# Altium schematic symbol library cabinet.SCHLIB: 36 symbols
Pins are listed as number, name and electrical type; pins without a type are passive.

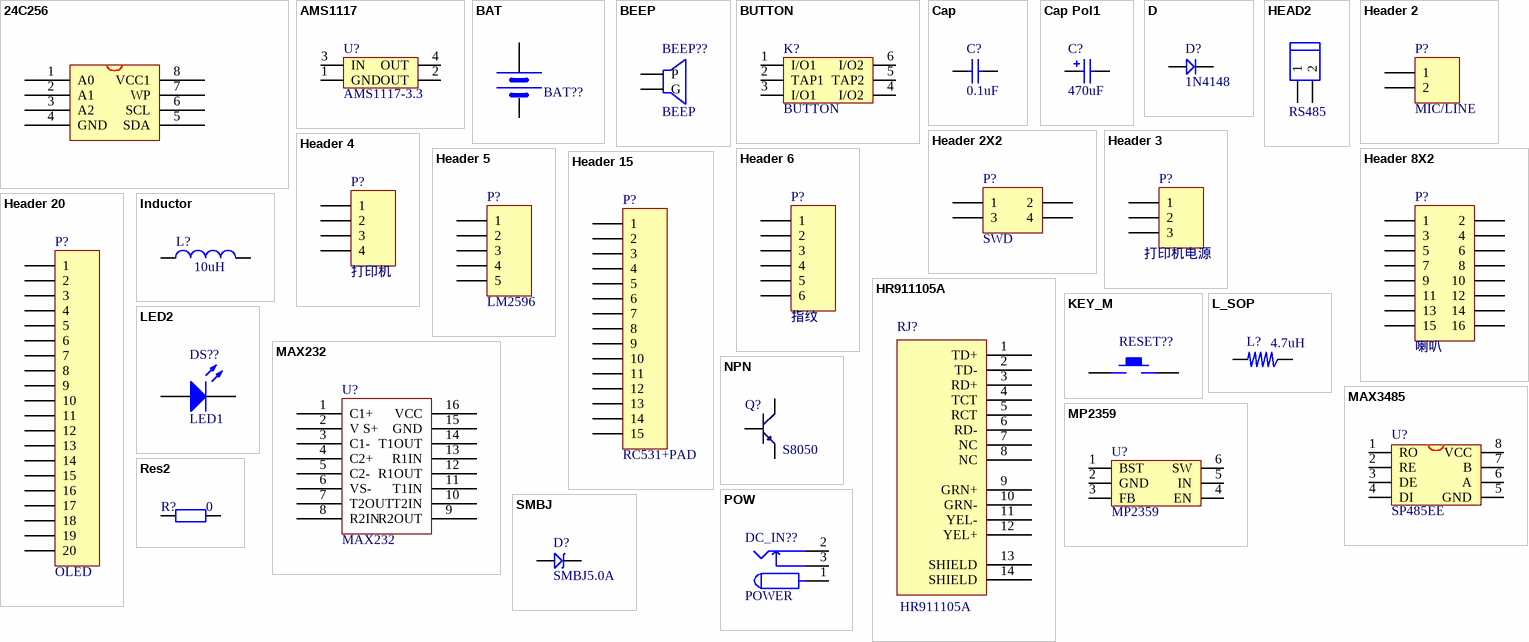
[diagram p0: symbols 24C256 to SMBJ]

## 24C256
designator U?, comment 24C02
footprint SOP-8 (SOP)
pins: 1 A0, 2 A1, 3 A2, 4 GND, 5 SDA, 6 SCL, 7 WP, 8 VCC1

## AMS1117
designator U?, comment AMS1117-3.3
footprint AMS1117
pins: 1 GND, 2 OUT, 3 IN, 4 OUT

## BAT
designator BAT??, comment BATT  (value not drawn)
footprint BATM (BAT)
pins: 1 VCC, 2 GND

## BEEP
designator BEEP??
footprint BUZZ0.25
footprint BELL-5 (PIN:5MM,SIZE:10MM)
pins: 1 P, 2 G

## BUTTON
designator K?
footprint BTN8.5*8.5 (8.5MM*8.5MM)
footprint BTN7*7 (7mm*7mm)
pins: 1 I/O1, 2 TAP1, 3 I/O1, 4 I/O2, 5 TAP2, 6 I/O2

## Cap
designator C?  value 0.1uF  (hidden comment: Cap)
Capacitor; Published: 8-Jun-2000; LatestRevisionDate: 17-Jul-2002; LatestRevisionNote: Re-released for DXP Platform.; PackageReference: RAD-0.3; Publisher: Altium Limited
footprint 0603P
footprint CAPR2.54-5.1x3.2 (Capacitor, Ceramic, Thru-Hole, Dipped Radial; Body 5.1 x 3.2 mm (WxT) Pin Spacing 2.54 mm (typ))
footprint CAPR5.08-7.8x3.2 (Capacitor, Ceramic, Thru-Hole, Dipped Radial; Body 7.8 x 3.2 mm (WxT) Pin Spacing 5.08 mm (typ))
simulation model CAP (Capacitor)
signal-integrity model Cap
pins: 1, 2

## Cap Pol1
designator C?  value 470uF  (hidden comment: Cap Pol1)
Polarized Capacitor (Radial); Published: 8-Jun-2000; LatestRevisionDate: 17-Jul-2002; LatestRevisionNote: Re-released for DXP Platform.; PackageReference: RB7.6-15; Publisher: Altium Limited
footprint 电解电容220UF25V
footprint CAPPR1.27-1.7x2.8 (Capacitor, Radial, Tantalum; Body 1.7 x 2.8 mm (Dia.xH max); Pin Spacing 1.27 mm (typ))
footprint CAPPR1.5-4x5 (Capacitor, Electrolytic, Radial; Body 4 x 5 mm (Dia.xH typ); Pin Spacing 1.5 mm (typ))
footprint CAPPR2-5x6.8 (Capacitor, Electrolytic, Radial; Body 5 x 6.8 mm (Dia.xH typ); Pin Spacing 2 mm (typ))
footprint CAPPR5-5x5 (Capacitor, Electrolytic, Radial; Body 5 x 5 mm (Dia.xH typ); Pin Spacing 5 mm (typ))
footprint CAPPR7.5-16x35 (Capacitor, Electrolytic, Radial; Body 16 x 35 mm (Dia.xH typ); Pin Spacing 7.5 mm (typ))
simulation model CAP (Capacitor)
signal-integrity model Cap Pol
pins: 1, 2
1 alternate drawing of the same symbol

## D
designator D?, comment 1N4148
footprint SOD-123
footprint DIODE_SOP (4148)
footprint DIODE-L (6A10)
footprint DIODE-M (1N5822)
footprint DIODE_S (1N4007)
footprint DIODE_3*5.3 (ME:SS14/SS24;L:5.3mm;W:3mm;)
footprint DIODE_4*5.6 (ME:RS2J.L:5.6mm;W:4mm)
footprint DIODE_6.2*8.13 (ME:RS2J.L:8.13mm;W:6.2mm)
pins: 1, 2

## HEAD2
designator RS?, comment RS485
footprint HEAD2H (HEAD5.08)
footprint HEAD2L (HEAD5.08)
footprint 锁座子
footprint HEAD2W (2EDG-2,pin:5.08mm)
pins: 1, 2

## Header 2
designator P?, comment MIC/LINE
Header, 2-Pin; LatestRevisionDate: 17-Jul-2002; LatestRevisionNote: Re-released for DXP Platform.; Publisher: Altium Limited
footprint 座子2PIN
signal-integrity model Connector
pins: 1, 2

## Header 2X2
designator P?, comment SWD
Header, 2-Pin, Dual row; LatestRevisionDate: 17-Jul-2002; LatestRevisionNote: Re-released for DXP Platform.; Publisher: Altium Limited
footprint HDR2X2 (Connector; Header; 2x2 Position)
pins: 1, 2, 3, 4

## Header 3
designator P?, comment 打印机电源
Header, 3-Pin; LatestRevisionDate: 17-Jul-2002; LatestRevisionNote: Re-released for DXP Platform.; Publisher: Altium Limited
footprint 座子3pin
signal-integrity model Connector
pins: 1, 2, 3

## Header 4
designator P?, comment 打印机
Header, 4-Pin; LatestRevisionDate: 17-Jul-2002; LatestRevisionNote: Re-released for DXP Platform.; Publisher: Altium Limited
footprint 排座4pin
signal-integrity model Connector
pins: 1, 2, 3, 4

## Header 5
designator P?, comment LM2596
Header, 5-Pin; LatestRevisionDate: 17-Jul-2002; LatestRevisionNote: Re-released for DXP Platform.; Publisher: Altium Limited
footprint LM2596
signal-integrity model Connector
pins: 1, 2, 3, 4, 5

## Header 6
designator P?, comment 指纹
Header, 6-Pin; LatestRevisionDate: 17-Jul-2002; LatestRevisionNote: Re-released for DXP Platform.; Publisher: Altium Limited
footprint 座子6pin
signal-integrity model Connector
pins: 1, 2, 3, 4, 5, 6

## Header 8X2
designator P?, comment 喇叭
Header, 8-Pin, Dual row; LatestRevisionDate: 17-Jul-2002; LatestRevisionNote: Re-released for DXP Platform.; Publisher: Altium Limited
footprint HDR2X8
signal-integrity model Connector
pins: 1, 2, 3, 4, 5, 6, 7, 8, 9, 10, 11, 12, 13, 14, 15, 16

## Header 15
designator P?, comment RC531+PAD
Header, 15-Pin; LatestRevisionDate: 17-Jul-2002; LatestRevisionNote: Re-released for DXP Platform.; Publisher: Altium Limited
footprint HDR1X15 (Connector; Header; 15 Position)
signal-integrity model Connector
pins: 1, 2, 3, 4, 5, 6, 7, 8, 9, 10, 11, 12, 13, 14, 15

## Header 20
designator P?, comment OLED
Header, 20-Pin; LatestRevisionDate: 17-Jul-2002; LatestRevisionNote: Re-released for DXP Platform.; Publisher: Altium Limited
footprint HDR1X20 (Connector; Header; 20 Position)
signal-integrity model Connector
pins: 1, 2, 3, 4, 5, 6, 7, 8, 9, 10, 11, 12, 13, 14, 15, 16, 17, 18, 19, 20

## HR911105A
designator RJ?
name: HR911105A
footprint HR911105A
pins: 1 TD+, 2 TD-, 3 RD+, 4 TCT, 5 RCT, 6 RD-, 7 NC, 8 NC, 9 GRN+, 10 GRN-, 11 YEL-, 12 YEL+, 13 SHIELD, 14 SHIELD

## Inductor
designator L?, comment 10uH
Inductor; Code_IEC: 1005; Published: 8-Jun-2000; LatestRevisionDate: 29-May-2009; LatestRevisionNote: IPC-7351 Footprint Added.; PackageReference: 0402-A; Publisher: Altium Limited; PackageDescription: Chip Inductor; Code_JEITA: 0402; Value: 10uH
footprint GDCD4532
footprint INDC1608L (Chip Inductor, Body 1.6x0.8mm, IPC High Density)
footprint INDC2012L (Chip Inductor, Body 2.0x1.2mm, IPC High Density)
footprint INDC0603L (Chip Inductor, Body 0.6x0.3mm, IPC High Density)
footprint INDC3216AL (Chip Inductor, Body 3.2x1.6mm, IPC High Density)
footprint INDC4532L (Chip Inductor, Body 4.5x3.2mm, IPC High Density)
simulation model INDUCTOR (Inductor)
signal-integrity model Inductor
pins: 1, 2

## KEY_M
designator RESET??  (value not drawn)
footprint KEY_M (KEY_MID)
footprint KEY_2 (KEY?)
footprint KEY_SOP_BG (KEY?)
pins: 1, 2

## L_SOP
designator L?, comment 4.7uH
footprint L_SOPL (L_LARGE)
footprint L_SOPS (L_4*4)
footprint L10 (10mH)
footprint L_SOP74
pins: 1, 2

## LED2
designator DS??, comment LED1
Typical RED, GREEN, YELLOW, AMBER GaAs LED; Published: 8-Jun-2000; LatestRevisionDate: 17-Jul-2002; LatestRevisionNote: Re-released for DXP Platform.; PackageDocument: Feb-2002; PackageReference: 3.2X1.6X1.1; Publisher: Altium Limited
footprint SMDLED
simulation model LED2 (Diode)
pins: 1 A, 2 K

## MAX232
designator U?
footprint SOP16
pins: 1 C1+, 2 V S+, 3 C1-, 4 C2+, 5 C2-, 6 VS-, 7 T2OUT, 8 R2IN, 9 R2OUT, 10 T2IN, 11 T1IN, 12 R1OUT, 13 R1IN, 14 T1OUT, 15 GND, 16 VCC

## MAX3485
designator U?, comment SP485EE
footprint SOP-8 (SOP)
pins: 1 RO, 2 RE, 3 DE, 4 DI, 5 GND, 6 A, 7 B, 8 VCC

## MP2359
designator U?
DC DC Step Down IC
footprint SOT-23-6
pins: 1 BST, 2 GND, 3 FB, 4 EN, 5 IN, 6 SW

## NPN
designator Q?, comment S8050
8050/BCW846/BCW847
footprint SOT-23R (SOT-23; 3 Leads; Body 3.0 x 2.5 mm, inc. leads (LxW max))
footprint NPN
pins: 1 E, 2 B, 3 C

## POW
designator DC_IN??, comment POWER
footprint POWER (DC_IN)
footprint DC10B
pins: 1, 2, 3

## Res2
designator R?  value 0  (hidden comment: Res2)
Resistor; Published: 8-Jun-2000; LatestRevisionDate: 17-Jul-2002; LatestRevisionNote: Re-released for DXP Platform.; PackageReference: AXIAL-0.4; Publisher: Altium Limited
footprint 0603P
simulation model RESISTOR (Resistor)
signal-integrity model Res
pins: 1, 2

## SMBJ
designator D?, comment SMBJ5.0A
TVS
footprint SMBJ
pins: 1, 2

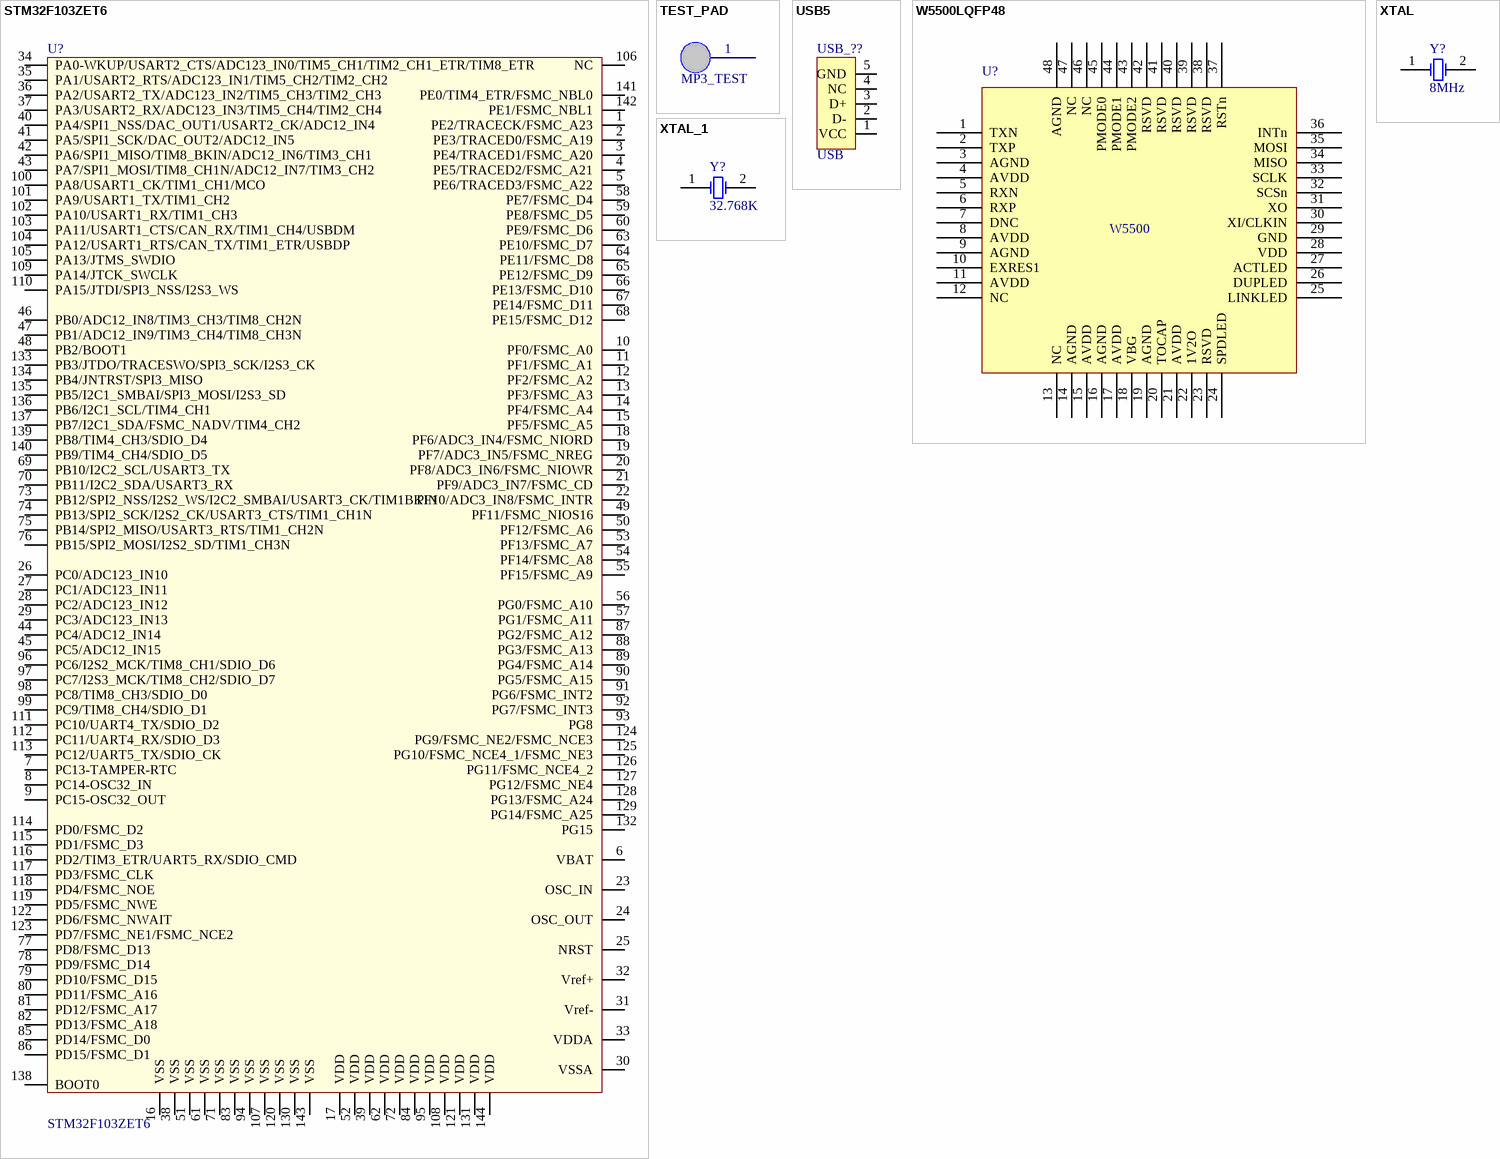
[diagram p1: symbols STM32F103ZET6 to XTAL_1]

## STM32F103ZET6
designator U?
footprint LQFP144
pins: 1 PE2/TRACECK/FSMC_A23, 2 PE3/TRACED0/FSMC_A19, 3 PE4/TRACED1/FSMC_A20, 4 PE5/TRACED2/FSMC_A21, 5 PE6/TRACED3/FSMC_A22, 6 VBAT, 7 PC13-TAMPER-RTC, 8 PC14-OSC32_IN, 9 PC15-OSC32_OUT, 10 PF0/FSMC_A0, 11 PF1/FSMC_A1, 12 PF2/FSMC_A2, 13 PF3/FSMC_A3, 14 PF4/FSMC_A4, 15 PF5/FSMC_A5, 16 VSS, 17 VDD, 18 PF6/ADC3_IN4/FSMC_NIORD, 19 PF7/ADC3_IN5/FSMC_NREG, 20 PF8/ADC3_IN6/FSMC_NIOWR, 21 PF9/ADC3_IN7/FSMC_CD, 22 PF10/ADC3_IN8/FSMC_INTR, 23 OSC_IN, 24 OSC_OUT, 25 NRST, 26 PC0/ADC123_IN10, 27 PC1/ADC123_IN11, 28 PC2/ADC123_IN12, 29 PC3/ADC123_IN13, 30 VSSA, 31 Vref-, 32 Vref+, 33 VDDA, 34 PA0-WKUP/USART2_CTS/ADC123_IN0/TIM5_CH1/TIM2_CH1_ETR/TIM8_ETR, 35 PA1/USART2_RTS/ADC123_IN1/TIM5_CH2/TIM2_CH2, 36 PA2/USART2_TX/ADC123_IN2/TIM5_CH3/TIM2_CH3, 37 PA3/USART2_RX/ADC123_IN3/TIM5_CH4/TIM2_CH4, 38 VSS, 39 VDD, 40 PA4/SPI1_NSS/DAC_OUT1/USART2_CK/ADC12_IN4, 41 PA5/SPI1_SCK/DAC_OUT2/ADC12_IN5, 42 PA6/SPI1_MISO/TIM8_BKIN/ADC12_IN6/TIM3_CH1, 43 PA7/SPI1_MOSI/TIM8_CH1N/ADC12_IN7/TIM3_CH2, 44 PC4/ADC12_IN14, 45 PC5/ADC12_IN15, 46 PB0/ADC12_IN8/TIM3_CH3/TIM8_CH2N, 47 PB1/ADC12_IN9/TIM3_CH4/TIM8_CH3N, 48 PB2/BOOT1, 49 PF11/FSMC_NIOS16, 50 PF12/FSMC_A6, 51 VSS, 52 VDD, 53 PF13/FSMC_A7, 54 PF14/FSMC_A8, 55 PF15/FSMC_A9, 56 PG0/FSMC_A10, 57 PG1/FSMC_A11, 58 PE7/FSMC_D4, 59 PE8/FSMC_D5, 60 PE9/FSMC_D6, 61 VSS, 62 VDD, 63 PE10/FSMC_D7, 64 PE11/FSMC_D8, 65 PE12/FSMC_D9, 66 PE13/FSMC_D10, 67 PE14/FSMC_D11, 68 PE15/FSMC_D12, 69 PB10/I2C2_SCL/USART3_TX, 70 PB11/I2C2_SDA/USART3_RX, 71 VSS, 72 VDD, 73 PB12/SPI2_NSS/I2S2_WS/I2C2_SMBAI/USART3_CK/TIM1BKIN, 74 PB13/SPI2_SCK/I2S2_CK/USART3_CTS/TIM1_CH1N, 75 PB14/SPI2_MISO/USART3_RTS/TIM1_CH2N, 76 PB15/SPI2_MOSI/I2S2_SD/TIM1_CH3N, 77 PD8/FSMC_D13, 78 PD9/FSMC_D14, 79 PD10/FSMC_D15, 80 PD11/FSMC_A16, 81 PD12/FSMC_A17, 82 PD13/FSMC_A18, 83 VSS, 84 VDD, 85 PD14/FSMC_D0, 86 PD15/FSMC_D1, 87 PG2/FSMC_A12, 88 PG3/FSMC_A13, 89 PG4/FSMC_A14, 90 PG5/FSMC_A15, 91 PG6/FSMC_INT2, 92 PG7/FSMC_INT3, 93 PG8, 94 VSS, 95 VDD, 96 PC6/I2S2_MCK/TIM8_CH1/SDIO_D6, 97 PC7/I2S3_MCK/TIM8_CH2/SDIO_D7, 98 PC8/TIM8_CH3/SDIO_D0, 99 PC9/TIM8_CH4/SDIO_D1, 100 PA8/USART1_CK/TIM1_CH1/MCO, 101 PA9/USART1_TX/TIM1_CH2, 102 PA10/USART1_RX/TIM1_CH3, 103 PA11/USART1_CTS/CAN_RX/TIM1_CH4/USBDM, 104 PA12/USART1_RTS/CAN_TX/TIM1_ETR/USBDP, 105 PA13/JTMS_SWDIO, 106 NC, 107 VSS, 108 VDD, 109 PA14/JTCK_SWCLK, 110 PA15/JTDI/SPI3_NSS/I2S3_WS, 111 PC10/UART4_TX/SDIO_D2, 112 PC11/UART4_RX/SDIO_D3, 113 PC12/UART5_TX/SDIO_CK, 114 PD0/FSMC_D2, 115 PD1/FSMC_D3, 116 PD2/TIM3_ETR/UART5_RX/SDIO_CMD, 117 PD3/FSMC_CLK, 118 PD4/FSMC_NOE, 119 PD5/FSMC_NWE, 120 VSS, 121 VDD, 122 PD6/FSMC_NWAIT, 123 PD7/FSMC_NE1/FSMC_NCE2, 124 PG9/FSMC_NE2/FSMC_NCE3, 125 PG10/FSMC_NCE4_1/FSMC_NE3, 126 PG11/FSMC_NCE4_2, 127 PG12/FSMC_NE4, 128 PG13/FSMC_A24, 129 PG14/FSMC_A25, 130 VSS, 131 VDD, 132 PG15, 133 PB3/JTDO/TRACESWO/SPI3_SCK/I2S3_CK, 134 PB4/JNTRST/SPI3_MISO, 135 PB5/I2C1_SMBAI/SPI3_MOSI/I2S3_SD, 136 PB6/I2C1_SCL/TIM4_CH1, 137 PB7/I2C1_SDA/FSMC_NADV/TIM4_CH2, 138 BOOT0, 139 PB8/TIM4_CH3/SDIO_D4, 140 PB9/TIM4_CH4/SDIO_D5, 141 PE0/TIM4_ETR/FSMC_NBL0, 142 PE1/FSMC_NBL1, 143 VSS, 144 VDD

## TEST_PAD
designator MP?, comment MP3_TEST
footprint TEST_PAD
pins: 1

## USB5
designator USB_??, comment USB
footprint USB/SM0.8-6H5
pins: 1 VCC, 2 D-, 3 D+, 4 NC, 5 GND

## W5500LQFP48
designator U?, comment W5500
footprint LC-LQFP-48_7x7x05P
pins: 1 TXN, 2 TXP, 3 AGND, 4 AVDD, 5 RXN, 6 RXP, 7 DNC, 8 AVDD, 9 AGND, 10 EXRES1, 11 AVDD, 12 NC, 13 NC, 14 AGND, 15 AVDD, 16 AGND, 17 AVDD, 18 VBG, 19 AGND, 20 TOCAP, 21 AVDD, 22 1V2O, 23 RSVD, 24 SPDLED, 25 LINKLED, 26 DUPLED, 27 ACTLED, 28 VDD, 29 GND, 30 XI/CLKIN, 31 XO, 32 SCSn, 33 SCLK, 34 MISO, 35 MOSI, 36 INTn, 37 RSTn, 38 RSVD, 39 RSVD, 40 RSVD, 41 RSVD, 42 RSVD, 43 PMODE2, 44 PMODE1, 45 PMODE0, 46 NC, 47 NC, 48 AGND

## XTAL
designator Y?, comment 8MHz
Crystal Oscillator; Published: 8-Jun-2000; LatestRevisionDate: 17-Jul-2002; LatestRevisionNote: Re-released for DXP Platform.; Publisher: Altium Limited
footprint XTAL_US
simulation model XTAL (Spice Subcircuit)
pins: 1 OSC1, 2 OSC2

## XTAL_1
designator Y?, comment 32.768K
Crystal Oscillator; Published: 8-Jun-2000; LatestRevisionDate: 17-Jul-2002; LatestRevisionNote: Re-released for DXP Platform.; Publisher: Altium Limited
footprint XTAL32
simulation model XTAL (Spice Subcircuit)
pins: 1 OSC1, 2 OSC2